# EAGLE library part IR3898 (library usb)
6A Highly Integrated SupIRBuck™ Single-Input Voltage, Synchronous Buck Regulator input: 5-21V output: 1-21V
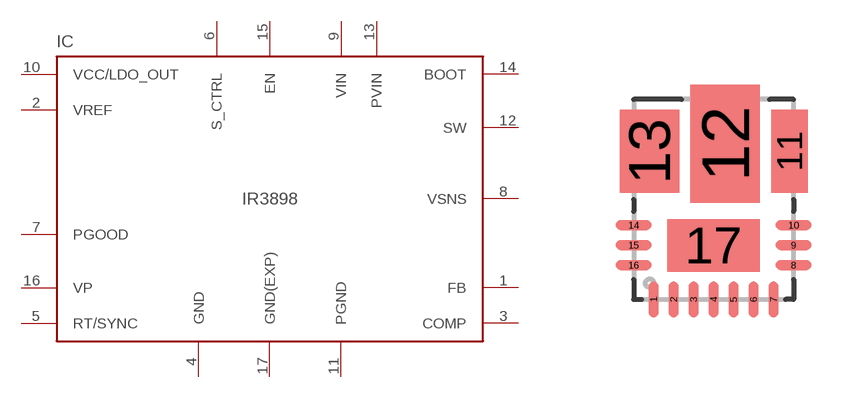
[diagram p4: symbol with the pads of PQFN16-4X5; footprint PQFN16-4X5]

Designator prefix IC

## IR3898  [PQFN16-4X5]
1  FB
2  VREF
3  COMP
4  GND  sup
5  RT/SYNC
6  S_CTRL
7  PGOOD
8  VSNS
9  VIN  pwr
10  VCC/LDO_OUT
11  PGND  sup
12  SW
13  PVIN  pwr
14  BOOT
15  EN
16  VP
17  GND(EXP)  sup

## Footprint PQFN16-4X5 (pad centres in mm)
smd 0.25 x 0.9: 1 -1.5,-2.5; 2 -1,-2.5; 3 -0.5,-2.5; 4 0,-2.5; 5 0.5,-2.5; 6 1,-2.5; 7 1.5,-2.5
smd 0.9 x 0.25: 8 2,-1.645; 9 2,-1.145; 10 2,-0.645; 14 -2,-0.645; 15 -2,-1.145; 16 -2,-1.645
smd 0.92 x 2.07: 11 1.9,1.205
smd 1.74 x 2.94: 12 0.29,1.39
smd 1.49 x 2.07: 13 -1.605,1.205
smd 2.31 x 1.32: 17 0,-1.15